# Altium footprint library smari_lib_pcb.PcbLib: 29 footprints (part 2 of 2)
Each footprint in its own frame and in the unit in brackets; x right, y up, seen from the top. Pads: shape width x height; smd on the part's side, far side on the other; paste and mask are expansions set on the pad; w line width, h text height; cw(c..) or ccw(c..) is an arc to the next point about the centre after c.
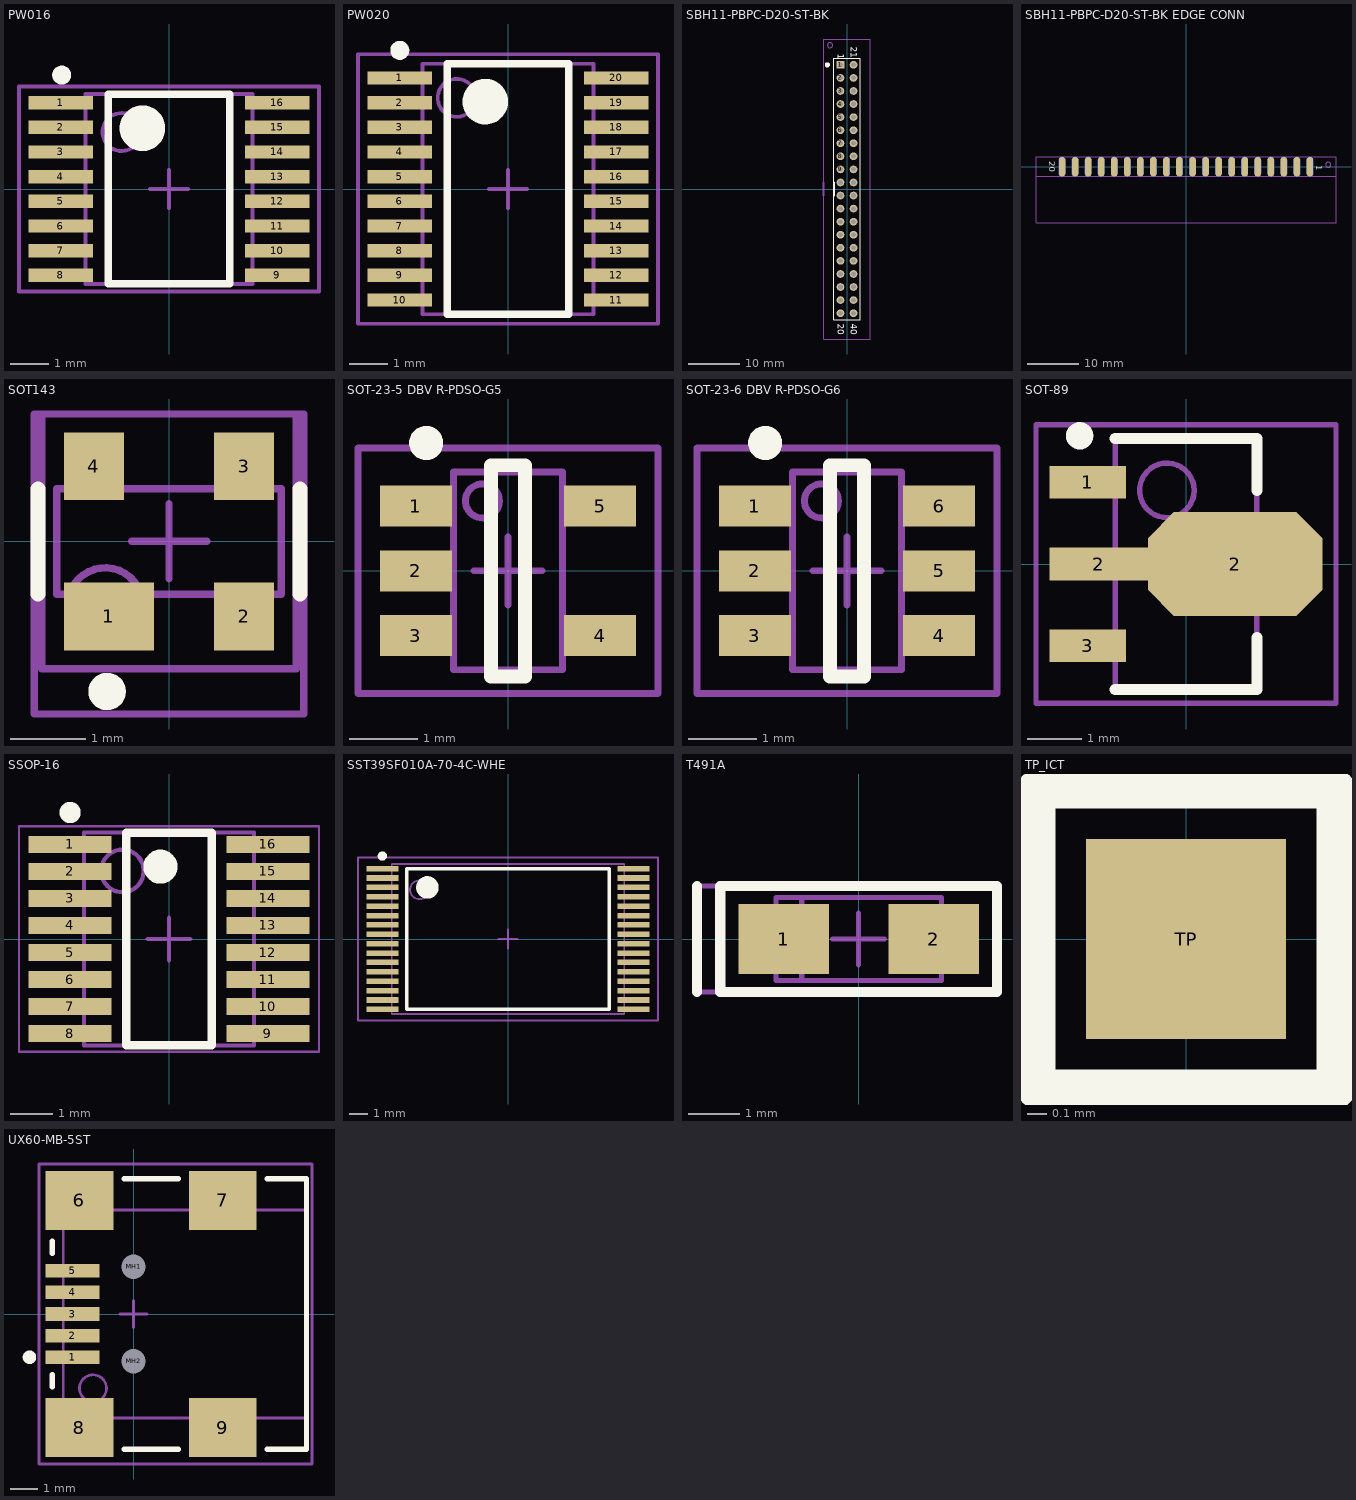
[diagram p1: the footprints below, top view; thin cyan lines are the x and y axes]

## PW016 [mm]
height 1.2
pads (16):
  rect 1.7x0.35 smd: 1(-2.85,2.275) 2(-2.85,1.625) 3(-2.85,0.975) 4(-2.85,0.325) 5(-2.85,-0.325) 6(-2.85,-0.975) 7(-2.85,-1.625) 8(-2.85,-2.275) 9(2.85,-2.275) 10(2.85,-1.625) 11(2.85,-0.975) 12(2.85,-0.325) 13(2.85,0.325) 14(2.85,0.975) 15(2.85,1.625) 16(2.85,2.275)
Top Overlay:
  circle w0.25: c-2.825,3 r0.125
  circle w0.6: c-0.7,1.6 r0.3
  lines w0.2: -1.6,-2.5 -1.6,2.5 1.6,2.5 1.6,-2.5 -1.6,-2.5
Component Body:
  lines w0.1: -2.2,-2.5 2.2,-2.5 2.2,2.5 -2.2,2.5 -2.2,-2.5
Assembly Top:
  circle w0.1: c-1.25,1.5 r0.5
  lines w0.1: -2.2,-2.5 -2.2,2.5 2.2,2.5 2.2,-2.5 -2.2,-2.5
  text ".Designator" at -0.3,0.4 h0.76
Courtyard Top:
  lines w0.1: -0.5,0 0.5,0 ; 0,-0.5 0,0.5 ; -3.95,-2.7 -3.95,2.7 3.95,2.7 3.95,-2.7 -3.95,-2.7
3D body: height 1.2, standoff 0, extent -2.2,-2.5 2.2,2.5

## PW020 [mm]
height 1.2
pads (20):
  rect 1.7x0.35 smd: 1(-2.85,2.925) 2(-2.85,2.275) 3(-2.85,1.625) 4(-2.85,0.975) 5(-2.85,0.325) 6(-2.85,-0.325) 7(-2.85,-0.975) 8(-2.85,-1.625) 9(-2.85,-2.275) 10(-2.85,-2.925) 11(2.85,-2.925) 12(2.85,-2.275) 13(2.85,-1.625) 14(2.85,-0.975) 15(2.85,-0.325) 16(2.85,0.325) 17(2.85,0.975) 18(2.85,1.625) 19(2.85,2.275) 20(2.85,2.925)
Top Overlay:
  circle w0.25: c-2.85,3.65 r0.125
  circle w0.6: c-0.6,2.3 r0.3
  lines w0.2: -1.6,-3.3 -1.6,3.3 1.6,3.3 1.6,-3.3 -1.6,-3.3
Component Body:
  lines w0.1: -2.25,-3.3 2.25,-3.3 2.25,3.3 -2.25,3.3 -2.25,-3.3
Assembly Top:
  circle w0.1: c-1.35,2.4 r0.5
  lines w0.1: -2.25,-3.3 -2.25,3.3 2.25,3.3 2.25,-3.3 -2.25,-3.3
  text ".Designator" at -0.3,0.4 h0.76
Courtyard Top:
  lines w0.1: -0.5,0 0.5,0 ; 0,-0.5 0,0.5 ; -3.95,-3.55 -3.95,3.55 3.95,3.55 3.95,-3.55 -3.95,-3.55
3D body: height 1.2, standoff 0, extent -2.25,-3.3 2.25,3.3

## SBH11-PBPC-D20-ST-BK [mm] "CONN HEADER 2.54MM 40POS GOLD"
height 9.1
pads (40):
  rect 1.5x1.5 hole 0.9: 1(-1.27,24.13)
  round 1.5 hole 0.9: 2(-1.27,21.59) 3(-1.27,19.05) 4(-1.27,16.51) 5(-1.27,13.97) 6(-1.27,11.43) 7(-1.27,8.89) 8(-1.27,6.35) 9(-1.27,3.81) 10(-1.27,1.27) 11(-1.27,-1.27) 12(-1.27,-3.81) 13(-1.27,-6.35) 14(-1.27,-8.89) 15(-1.27,-11.43) 16(-1.27,-13.97) 17(-1.27,-16.51) 18(-1.27,-19.05) 19(-1.27,-21.59) 20(-1.27,-24.13) 21(1.27,24.13) 22(1.27,21.59) 23(1.27,19.05) 24(1.27,16.51) 25(1.27,13.97) 26(1.27,11.43) 27(1.27,8.89) 28(1.27,6.35) 29(1.27,3.81) 30(1.27,1.27) 31(1.27,-1.27) 32(1.27,-3.81) 33(1.27,-6.35) 34(1.27,-8.89) 35(1.27,-11.43) 36(1.27,-13.97) 37(1.27,-16.51) 38(1.27,-19.05) 39(1.27,-21.59) 40(1.27,-24.13)
Top Overlay:
  circle w0.5: c-3.81,24.13 r0.25
  lines w0.2: -2.54,-25.4 2.54,-25.4 2.54,25.4 -2.54,25.4 -2.54,-25.4
  lines w0.4: -2.54,-1.27 -2.54,1.27
  text "20" at -1.778,-26.162 h1.27
  text "40" at 0.762,-26.162 h1.27
  text "21" at 0.73,27.63 h1.27
  text "1" at -1.77,26.33 h1.27
Component Body:
  lines w0.1: -4.55,-29.15 -4.55,29.15 4.55,29.15 4.55,-29.15 -4.55,-29.15
Assembly Top:
  circle w0.1: c-3.302,27.94 r0.5
  lines w0.1: -4.55,-29.15 4.55,-29.15 4.55,29.15 -4.55,29.15 -4.55,-29.15
  lines w0.4: -4.55,-1.27 -4.55,1.27
  text ".Designator" at -0.178,0.432 h0.76
Courtyard Top:
  lines w0.1: -4.55,-29.15 4.55,-29.15 4.55,29.15 -4.55,29.15 -4.55,-29.15
3D body: height 8.8, standoff 0.3, extent -4.55,-29.15 4.55,29.15

## SBH11-PBPC-D20-ST-BK EDGE CONN [mm] "CONN HEADER 2.54MM 40POS GOLD"
height 3.6
pads (40):
  oval 1.27x3.81 smd: 1(24.13,0) 2(21.59,0) 3(19.05,0) 4(16.51,0) 5(13.97,0) 6(11.43,0) 7(8.89,0) 8(6.35,0) 9(3.81,0) 10(1.27,0) 11(-1.27,0) 12(-3.81,0) 13(-6.35,0) 14(-8.89,0) 15(-11.43,0) 16(-13.97,0) 17(-16.51,0) 18(-19.05,0) 19(-21.59,0) 20(-24.13,0)
  oval 1.27x3.81 smd far side: 21(-24.13,0) 22(-21.59,0) 23(-19.05,0) 24(-16.51,0) 25(-13.97,0) 26(-11.43,0) 27(-8.89,0) 28(-6.35,0) 29(-3.81,0) 30(-1.27,0) 31(1.27,0) 32(3.81,0) 33(6.35,0) 34(8.89,0) 35(11.43,0) 36(13.97,0) 37(16.51,0) 38(19.05,0) 39(21.59,0) 40(24.13,0)
Top Overlay:
  text "1" at 25.4,0.254 h1.22
  text "20" at -26.67,1.016 h1.22
Bottom Overlay:
  text "21" at -26.67,-0.762 h1.22
  text "40" at 25.4,-1.016 h1.22
Component Body:
  lines w0.1: -29.21,-10.922 29.21,-10.922 29.21,-1.905 -29.21,-1.905 -29.21,-10.922
Assembly Top:
  circle w0.1: c27.686,0.381 r0.5
  lines w0.1: -29.21,-10.922 -29.21,1.905 29.21,1.905 29.21,-10.922 -29.21,-10.922
  text ".Designator" at 2.464,-5.918 h0.76
Courtyard Top:
  lines w0.1: -29.21,-10.922 29.21,-10.922 29.21,1.905 -29.21,1.905 -29.21,-10.922
3D body: height 3.6, standoff 0, extent -29.21,-10.922 29.21,-1.905

## SOT143 [mm] "SOT-143; 4 Leads; Body 3 x 2.6 mm, inc. leads (LxW max)"
height 1.1
pads (4):
  rect 1.2x0.9 smd paste+0: 1(-0.8,-1)
  rect 0.8x0.9 smd: 2(1,-1) 3(1,1) 4(-1,1)
Top Overlay:
  circle w0.25: c-0.825,-2 r0.125
  lines w0.2: -1.75,-0.7 -1.75,0.7 ; 1.75,-0.7 1.75,0.7
Component Body:
  lines w0.1: -1.5,-0.7 -1.5,0.7 1.5,0.7 1.5,-0.7 -1.5,-0.7
Assembly Top:
  circle w0.1: c-0.85,-0.85 r0.5
  lines w0.1: -1.7,-1.7 -1.7,1.7 1.7,1.7 1.7,-1.7 -1.7,-1.7
  text ".Designator" at -0.4,-0.3 h0.76
Courtyard Top:
  lines w0.1: -0.5,0 0.5,0 ; 0,-0.5 0,0.5 ; -1.8,-2.3 -1.8,1.7 1.8,1.7 1.8,-2.3 -1.8,-2.3
3D body: height 1.1, standoff 0.1, extent -1.5,-0.7 1.5,0.7

## SOT-23-5 DBV R-PDSO-G5 [mm] "SOT-23-5 TI DBV"
height 1.45
pads (5):
  rect 1.05x0.6 smd mask+0.178: 1(-1.35,0.95) 2(-1.35,0) 3(-1.35,-0.95) 4(1.35,-0.95) 5(1.35,0.95)
Top Overlay:
  circle w0.25: c-1.2,1.875 r0.125
  lines w0.2: -0.25,-1.55 0.25,-1.55 0.25,1.55 -0.25,1.55 -0.25,-1.55
Component Body:
  lines w0.1: -0.8,-1.45 0.8,-1.45 0.8,1.45 -0.8,1.45 -0.8,-1.45
Assembly Top:
  circle w0.1: c-0.375,1.025 r0.25
  lines w0.1: -0.8,-1.45 -0.8,1.45 0.8,1.45 0.8,-1.45 -0.8,-1.45
  text ".Designator" at -0.4,0.5 h0.76
Courtyard Top:
  lines w0.1: -0.5,0 0.5,0 ; 0,-0.5 0,0.5 ; -2.2,-1.8 -2.2,1.8 2.2,1.8 2.2,-1.8 -2.2,-1.8
3D body: height 1.1, standoff 0, extent -0.8,-1.45 0.8,1.45

## SOT-23-6 DBV R-PDSO-G6 [mm] "SOT-23-6 TI DBV"
height 1.45
pads (6):
  rect 1.05x0.6 smd mask+0.178: 1(-1.35,0.95) 2(-1.35,0) 3(-1.35,-0.95) 4(1.35,-0.95) 5(1.35,0) 6(1.35,0.95)
Top Overlay:
  circle w0.25: c-1.2,1.875 r0.125
  lines w0.2: -0.25,-1.55 -0.25,1.55 0.25,1.55 0.25,-1.55 -0.25,-1.55
Component Body:
  lines w0.1: -0.8,-1.45 -0.8,1.45 0.8,1.45 0.8,-1.45 -0.8,-1.45
Assembly Top:
  circle w0.1: c-0.375,1.025 r0.25
  lines w0.1: -0.8,-1.45 0.8,-1.45 0.8,1.45 -0.8,1.45 -0.8,-1.45
  text ".Designator" at -0.4,0.5 h0.76
Courtyard Top:
  lines w0.1: -0.5,0 0.5,0 ; 0,-0.5 0,0.5 ; -2.2,-1.8 2.2,-1.8 2.2,1.8 -2.2,1.8 -2.2,-1.8
3D body: height 1.1, standoff 0, extent -0.8,-1.45 0.8,1.45

## SOT-89 [mm]
height 1.6
pads (4):
  rect 1.4x0.6 smd: 1(-1.8,1.5) 3(-1.8,-1.5)
  rect 1.8x0.6 smd: 2(-1.6,0)
  oct 3.2x1.9 smd: 2(0.9,0)
Top Overlay:
  circle w0.25: c-1.95,2.35 r0.125
  lines w0.2: -1.3,-2.3 1.3,-2.3 1.3,-1.35 ; -1.3,2.3 1.3,2.3 1.3,1.35
Component Body:
  lines w0.1: -1.3,-2.3 -1.3,2.3 1.3,2.3 1.3,-2.3 -1.3,-2.3
Assembly Top:
  circle w0.1: c-0.35,1.35 r0.5
  lines w0.1: -1.3,-2.3 1.3,-2.3 1.3,2.3 -1.3,2.3 -1.3,-2.3
  text ".Designator" at -0.37,0.424 h0.76
Courtyard Top:
  lines w0.1: -0.5,0 0.5,0 ; 0,-0.5 0,0.5 ; -2.75,-2.55 2.75,-2.55 2.75,2.55 -2.75,2.55 -2.75,-2.55
3D body: height 1.6, standoff 0, extent -1.3,-2.3 1.3,2.3

## SSOP-16 [mm] "IC USB FS I2C SSOP-16"
height 1.76
pads (16):
  rect 1.95x0.4 smd: 1(-2.325,2.222) 2(-2.325,1.587) 3(-2.325,0.953) 4(-2.325,0.318) 5(-2.325,-0.318) 6(-2.325,-0.953) 7(-2.325,-1.587) 8(-2.325,-2.222) 9(2.325,-2.222) 10(2.325,-1.587) 11(2.325,-0.953) 12(2.325,-0.318) 13(2.325,0.318) 14(2.325,0.953) 15(2.325,1.587) 16(2.325,2.222)
Top Overlay:
  circle w0.4: c-0.2,1.7 r0.2
  circle w0.25: c-2.325,2.973 r0.125
  lines w0.2: -1,-2.5 1,-2.5 1,2.5 -1,2.5 -1,-2.5
Component Body:
  lines w0.1: -2,-2.5 2,-2.5 2,2.5 -2,2.5 -2,-2.5
Assembly Top:
  circle w0.1: c-1.095,1.6 r0.5
  lines w0.1: -2,-2.5 2,-2.5 2,2.5 -2,2.5 -2,-2.5
  text ".Designator" at -0.3,0.4 h0.76
Courtyard Top:
  lines w0.05: -3.525,-2.65 3.525,-2.65 3.525,2.65 -3.525,2.65 -3.525,-2.65
  lines w0.1: -0.5,0 0.5,0 ; 0,-0.5 0,0.5
3D body: height 1.76, standoff 0, extent -2,-2.5 2,2.5

## SST39SF010A-70-4C-WHE [mm] "IC FLASH MPF 1MBIT 70NS 32TSOP"
height 1
pads (32):
  rect 1.7x0.3 smd: 1(-6.7,3.75) 2(-6.7,3.25) 3(-6.7,2.75) 4(-6.7,2.25) 5(-6.7,1.75) 6(-6.7,1.25) 7(-6.7,0.75) 8(-6.7,0.25) 9(-6.7,-0.25) 10(-6.7,-0.75) 11(-6.7,-1.25) 12(-6.7,-1.75) 13(-6.7,-2.25) 14(-6.7,-2.75) 15(-6.7,-3.25) 16(-6.7,-3.75) 17(6.7,-3.75) 18(6.7,-3.25) 19(6.7,-2.75) 20(6.7,-2.25) 21(6.7,-1.75) 22(6.7,-1.25) 23(6.7,-0.75) 24(6.7,-0.25) 25(6.7,0.25) 26(6.7,0.75) 27(6.7,1.25) 28(6.7,1.75) 29(6.7,2.25) 30(6.7,2.75) 31(6.7,3.25) 32(6.7,3.75)
Top Overlay:
  circle w0.6: c-4.3,2.75 r0.3
  circle w0.25: c-6.7,4.425 r0.125
  lines w0.2: -5.4,-3.75 5.4,-3.75 5.4,3.75 -5.4,3.75 -5.4,-3.75
Component Body:
  lines w0.1: -6.2,-4 -6.2,4 6.2,4 6.2,-4 -6.2,-4
Assembly Top:
  circle w0.1: c-4.725,2.625 r0.5
  lines w0.1: -6.2,-4 6.2,-4 6.2,4 -6.2,4 -6.2,-4
  text ".Designator" at -0.4,0.5 h0.76
Courtyard Top:
  lines w0.1: -0.5,0 0.5,0 ; 0,-0.5 0,0.5 ; -8,-4.35 8,-4.35 8,4.35 -8,4.35 -8,-4.35
3D body: height 1, standoff 0, extent -6.2,-4 6.2,4

## T491A [mm]
height 1.8
pads (2):
  rect 1.75x1.35 smd: 1(-1.45,0) 2(1.45,0)
Top Overlay:
  lines w0.2: -3.125,-1.025 -3.125,1.025 ; -2.675,-1.025 2.675,-1.025 2.675,1.025 -2.675,1.025 -2.675,-1.025
Component Body:
  lines w0.1: -1.6,-0.8 1.6,-0.8 1.6,0.8 -1.6,0.8 -1.6,-0.8
Assembly Top:
  lines w0.1: -1.1,-0.8 -1.1,0.8 ; -1.6,-0.8 1.6,-0.8 1.6,0.8 -1.6,0.8 -1.6,-0.8
  text ".Designator" at -0.5,-0.4 h0.64
Courtyard Top:
  lines w0.1: -0.5,0 0.5,0 ; 0,-0.5 0,0.5 ; -3.125,-1.025 2.675,-1.025 2.675,1.025 -3.125,1.025 -3.125,-1.025
3D body: height 1.6, standoff 0, extent -1.6,-0.8 1.6,0.8

## TP_ICT [mil] "ICT Test Point"
pads (1):
  rect 40x40 smd paste-40: TP(0,0)
Top Overlay:
  lines w7.87: -30,-30 30,-30 30,30 -30,30 -30,-30

## UX60-MB-5ST [mm] "CONN RECEPT MINI USB2.0 5POS"
height 3.95
pads (11):
  rect 2x0.5 smd: 1(-2.25,-1.6) 2(-2.25,-0.8) 3(-2.25,0) 4(-2.25,0.8) 5(-2.25,1.6)
  rect 2.5x2.2 smd: 6(-2,4.2) 7(3.3,4.2) 8(-2,-4.2) 9(3.3,-4.2)
  round 0.6 hole 0.9 unplated: MH1(0,1.75) MH2(0,-1.75)
Top Overlay:
  circle w0.25: c-3.85,-1.6 r0.125
  lines w0.2: -3,-2.7 -3,-2.25 ; -3,2.25 -3,2.7 ; -0.35,-5 1.65,-5 ; -0.35,5 1.65,5 ; 4.95,-5 6.4,-5 6.4,5 4.95,5
Component Body:
  lines w0.1: -2.6,-3.85 6.4,-3.85 6.4,3.85 -2.6,3.85 -2.6,-3.85
Assembly Top:
  circle w0.1: c-1.5,-2.75 r0.5
  lines w0.1: -2.6,-3.85 -2.6,3.85 6.4,3.85 6.4,-3.85 -2.6,-3.85
  text ".Designator" at -0.4,-0.2 h0.76
Courtyard Top:
  lines w0.1: -0.5,0 0.5,0 ; 0,-0.5 0,0.5 ; -3.5,-5.55 -3.5,5.55 6.6,5.55 6.6,-5.55 -3.5,-5.55
3D body: height 3.95, standoff 0, extent -2.6,-3.85 6.4,3.85